# Altium schematic symbol library LP2950CZ-3.3RA.Schlib: 1 symbol
Pins are listed as number, name and electrical type; pins without a type are passive.

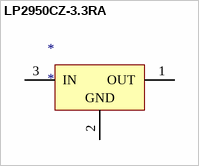
[diagram p0: symbol LP2950CZ-3.3RA]

## LP2950CZ-3.3RA
designator *
pins: 1 OUT (power), 2 GND (power), 3 IN (power)